# EAGLE library part S6B-XH-A (library jst-xh)
Wire-to-Board 2.5mm pitch side mount connector Source: http://www.jst-mfg.com/product/pdf/jpn/XH.pdf http://www.jst-mfg.com/product/detail.php?series=277
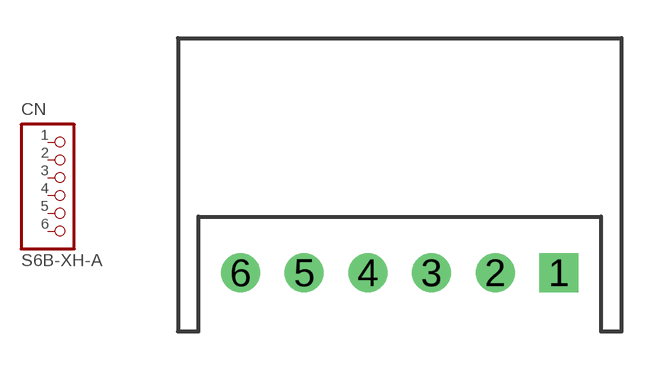
[diagram p12: symbol with the pads of S6B-XH-A; footprint S6B-XH-A]

Designator prefix CN

## S6B-XH-A  [S6B-XH-A]
1  1  pas
2  2  pas
3  3  pas
4  4  pas
5  5  pas
6  6  pas

## Footprint S6B-XH-A (pad centres in mm)
drill 1.016 square: 1 6.25,0
drill 1.016: 2 3.75,0; 3 1.25,0; 4 -1.25,0; 5 -3.75,0; 6 -6.25,0